# EAGLE library part M3PI-NO-LCD (library m3pi)
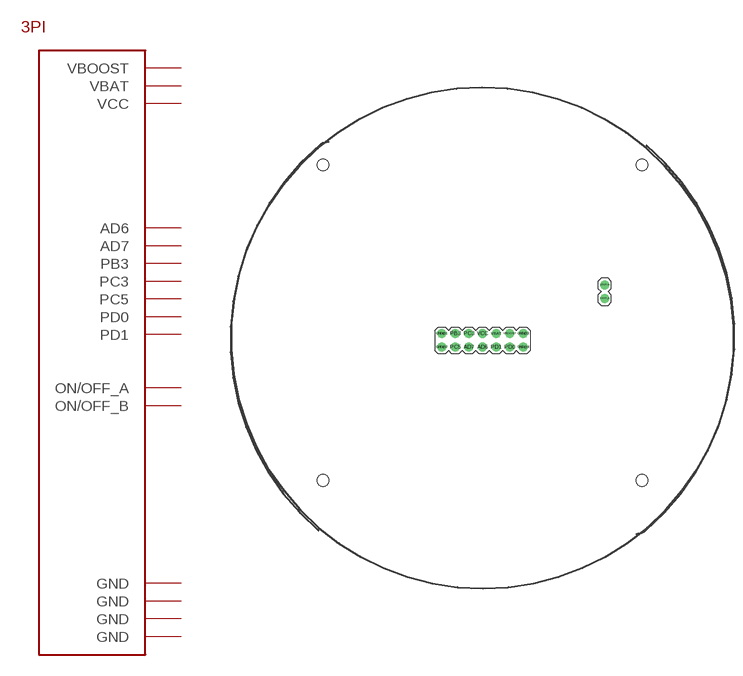
[diagram p6: symbol with the pads of M3PI-NO-LCD; footprint M3PI-NO-LCD]

Designator prefix -

## M3PI-NO-LCD  [M3PI-NO-LCD]
AD6  AD6
AD7  AD7
GND@1  GND
GND@2  GND
GND@3  GND
GND@4  GND
ON/OFF_A  ON/OFF_A
ON/OFF_B  ON/OFF_B
PB3  PB3
PC3  PC3
PC5  PC5
PD0  PD0
PD1  PD1
VBAT  VBAT
VBOOST  VBOOST
VCC  VCC

## Footprint M3PI-NO-LCD (pad centres in mm)
drill 1 pad 1.676: AD6 0,-16.97; AD7 -2.54,-16.97; GND@1 -7.62,-14.43; GND@2 -7.62,-16.97; GND@3 7.62,-14.43; GND@4 7.62,-16.97; ON/OFF_A 22.86,-5.31; ON/OFF_B 22.86,-7.85; PB3 -5.08,-14.43; PC3 -2.54,-14.43; PC5 -5.08,-16.97; PD0 5.08,-16.97; PD1 2.54,-16.97; VBAT 2.54,-14.43; VBOOST 5.08,-14.43; VCC 0,-14.43
hole 2.2 at -29.845,-41.91
hole 2.2 at 29.845,-41.91
hole 2.2 at 29.845,17.145
hole 2.2 at -29.845,17.145